# Altium schematic symbol library Cole_.SchLib: 330 symbols (part 6 of 10)
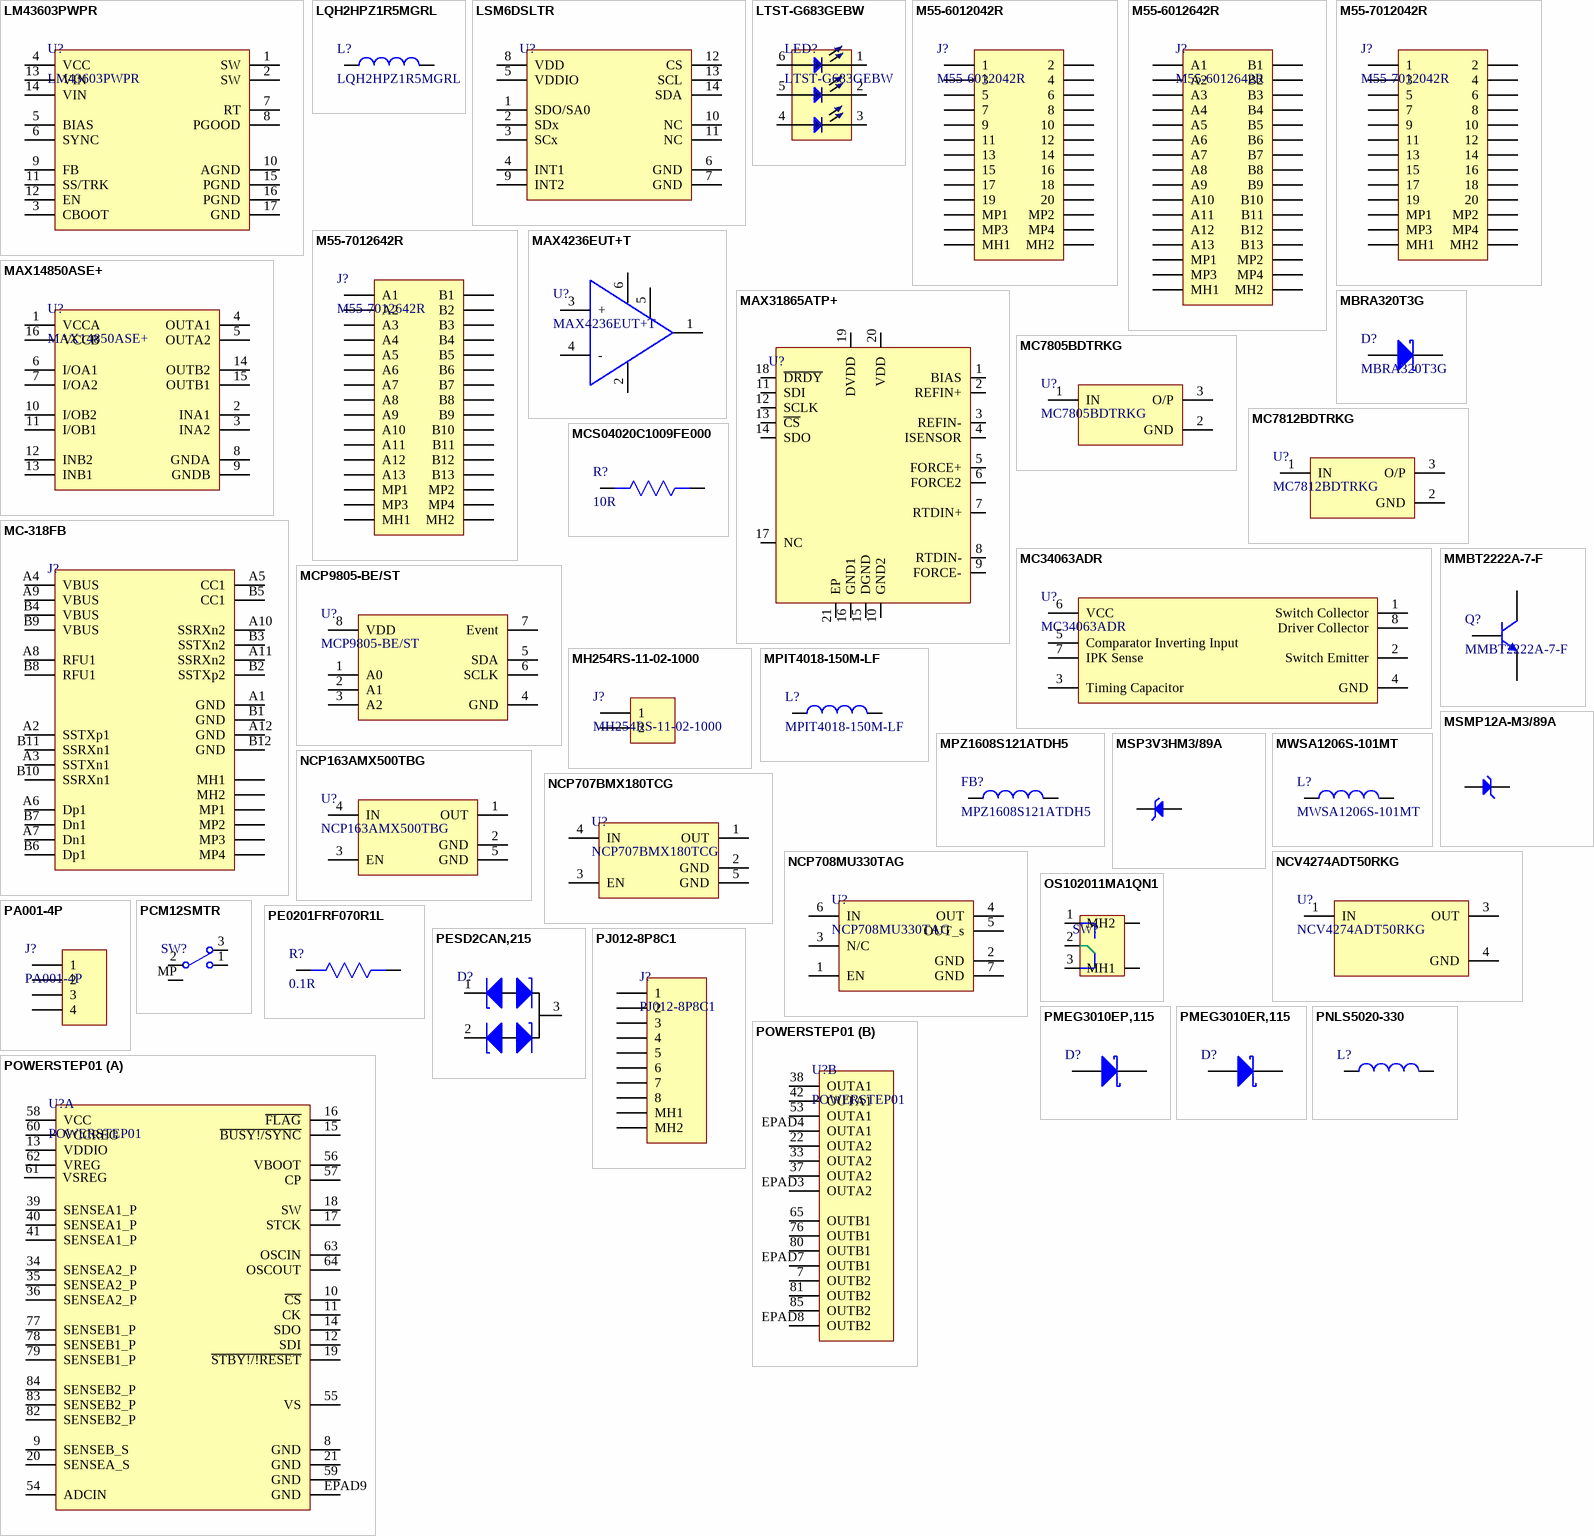
[diagram p13: symbols LM43603PWPR to POWERSTEP01]

## MC7812BDTRKG
designator U?
IC REG LINEAR 12V 1A DPAK; Manufacturer: ON Semiconductor; Max Input Voltage: 35V; Min Input Voltage: 19V; Number of Outputs: 1; Dropout Voltage: 2V; Polarity: Positive; Quiescent Current: 8mA; Accuracy: 4%; Power Supply Rejection Ratio (PSRR): 60dB; Output Type: Fixed; Supplier 1: Digi-Key; Manufacturer Part Number: MC7812BDTRKG; RoHS: Yes; Category: Voltage Regulators - Linear; Stock 1: 288; Pricing 1: 1=0.81000, 10=0.71600, 25=0.67280, 100=0.54900, 250=0.50992, 500=0.43396, 1000=0.35822 (USD); Mount: Surface Mount; Case/Package: DPAK; Number of Pins: 3; Contact Plating: Tin,Matte; Min Operating Temperature: -40°C; Max Operating Temperature: 125°C; Output Voltage: 12V; Output Current: 1A; Packaging: Tape and Reel; Package Quantity: 1; Max Output Current: 1A; Nominal Output Voltage: 12V; Number of Regulators: 1; Min Output Voltage: 12V; Output Voltage Accuracy: 4%; Radiation Hardening: No; REACH SVHC: No SVHC; Lead Free: Lead Free; Halogen Free: Halogen Free; RoHS Compliant: Yes; ComponentLink1URL: https://datasheet.ciiva.com/8073/87758-8073852.pdf?src-supplier=Element14; ComponentLink1Description: https://datasheet.ciiva.com/8073/87758-8073852.pdf?src-supplier=Element14; ComponentLink2URL: https://datasheet.ciiva.com/22629/1726421-22629432.pdf?src-supplier=Element14; ComponentLink2Description: https://datasheet.ciiva.com/22629/1726421-22629432.pdf?src-supplier=Element14; ComponentLink3URL: https://datasheet.ciiva.com/46381/1726421-46381894.pdf?src-supplier=Element14; ComponentLink3Description: https://datasheet.ciiva.com/46381/1726421-46381894.pdf?src-supplier=Element14; ComponentLink4URL: https://datasheet.ciiva.com/8230/mc7800-d-8230637.pdf?src-supplier=Avnet; ComponentLink4Description: https://datasheet.ciiva.com/8230/mc7800-d-8230637.pdf?src-supplier=Avnet; ComponentLink5URL: https://datasheet.ciiva.com/8234/mc7800-d-8234078.pdf?src-supplier=Avnet; ComponentLink5Description: https://datasheet.ciiva.com/8234/mc7800-d-8234078.pdf?src-supplier=Avnet; ComponentLink6URL: https://datasheet.ciiva.com/2042/mc7800-d-2042425.pdf?src-supplier=Digi-Key; ComponentLink6Description: https://datasheet.ciiva.com/2042/mc7800-d-2042425.pdf?src-supplier=Digi-Key; ComponentLink7URL: https://datasheet.ciiva.com/2042/mc7800-d-2042426.pdf?src-supplier=Digi-Key; ComponentLink7Description: https://datasheet.ciiva.com/2042/mc7800-d-2042426.pdf?src-supplier=Digi-Key; ComponentLink8URL: https://datasheet.ciiva.com/2042/mc7800-d-2042424.pdf?src-supplier=Digi-Key; ComponentLink8Description: https://datasheet.ciiva.com/2042/mc7800-d-2042424.pdf?src-supplier=Digi-Key; Supplier Part Number 1: MC7812BDTRKGOSCT-ND
footprint DPAK
pins: 1 IN, 2 GND, 3 O/P

## MC34063ADR
designator U?
1.5-A boost, buck, inverting switching regulator, operation from 0°C to 70°C 8-SOIC 0 to 70; Manufacturer: Texas Instruments; Output Voltage: 40V; Number of Outputs: 1; Output Current: 1.5A; Switching Frequency: 100kHz; Synchronous Rectifier: No; Output Type: Adjustable; Max Output Current: 750mA; Min Input Voltage: 3V; Min Output Voltage: 1.55V; Quiescent Current: 4mA; Topology: Flyback,SEPIC; Supplier 1: Digi-Key; Manufacturer Part Number: MC34063ADR; RoHS: Yes; Category: Power Supply Modules; Stock 1: 17204; Pricing 1: 1=0.78000, 10=0.68400, 25=0.64240, 100=0.52420, 250=0.48688, 500=0.41438, 1000=0.34206 (USD); Case/Package: D; Number of Pins: 8; Weight: 0.002561oz; Contact Plating: Gold; Min Operating Temperature: 0°C; Max Operating Temperature: 70°C; Packaging: Tape and Reel; Package Quantity: 1; Max Input Voltage: 40V; Max Output Voltage: 40V; Termination: SMD/SMT; Radiation Hardening: No; RoHS Compliant: Yes; Lead Free: Lead Free; REACH SVHC: No SVHC; ComponentLink1URL: https://datasheet.ciiva.com/7408/1862376-7408060.pdf?src-supplier=Newark; ComponentLink1Description: https://datasheet.ciiva.com/7408/1862376-7408060.pdf?src-supplier=Newark; ComponentLink2URL: https://datasheet.ciiva.com/2025/mc33063a-2025162.pdf?src-supplier=Digi-Key; ComponentLink2Description: https://datasheet.ciiva.com/2025/mc33063a-2025162.pdf?src-supplier=Digi-Key; ComponentLink3URL: https://datasheet.ciiva.com/2025/mc33063a-2025161.pdf?src-supplier=Digi-Key; ComponentLink3Description: https://datasheet.ciiva.com/2025/mc33063a-2025161.pdf?src-supplier=Digi-Key; ComponentLink4URL: https://datasheet.ciiva.com/2025/mc33063a-2025163.pdf?src-supplier=Digi-Key; ComponentLink4Description: https://datasheet.ciiva.com/2025/mc33063a-2025163.pdf?src-supplier=Digi-Key; Supplier Part Number 1: 296-17765-1-ND
footprint SOIC-8
pins: 1 Switch Collector, 2 Switch Emitter, 3 Timing Capacitor, 4 GND, 5 Comparator Inverting Input, 6 VCC, 7 IPK Sense, 8 Driver Collector

## MC-318FB
designator J?
USB 3.0 3A 1 Brick nogging 24 Female -35℃~+75℃ Type-C SMD USB Connectors ROHS; Manufacturer: SOFNG; Manufacturer Part Number: MC-318FB; ComponentLink1Description: LCSC; ComponentLink1URL: https://www.lcsc.com/product-detail/USB-Connectors_SOFNG-MC-318FB_C2977724.html; Footprint: Custom
footprint MC-318FB
pins: A1 GND, A2 SSTXp1, A3 SSTXn1, A4 VBUS, A5 CC1, A6 Dp1, A7 Dn1, A8 RFU1, A9 VBUS, A10 SSRXn2, A11 SSRXn2, A12 GND, B1 GND, B2 SSTXp2, B3 SSTXn2, B4 VBUS, B5 CC1, B6 Dp1, B7 Dn1, B8 RFU1, B9 VBUS, B10 SSRXn1, B11 SSRXn1, B12 GND, MH1, MH2, MP1, MP2, MP3, MP4

## MCP9805-BE/ST
designator U?
IC SENSOR THERMAL 3.0V 8TSSOP; Manufacturer: Microchip; Min Supply Voltage: 3V; Max Supply Voltage: 3.6V; Output Current: 1uA; Interface: I2C,SMBus,2-Wire,Serial; Resolution: 10b; Operating Supply Current: 200uA; Accuracy: 2%; Number of Bits: 10; Output Type: I2C,Digital; Sensor Type: Temperature; Sensing Method: Resistive; ComponentLink1URL: https://datasheet.ciiva.com/22737/1678782-22737270.pdf?src-supplier=Element14; ComponentLink1Description: https://datasheet.ciiva.com/22737/1678782-22737270.pdf?src-supplier=Element14; ComponentLink2URL: https://datasheet.ciiva.com/43467/1678782-43467032.pdf?src-supplier=Farnell; ComponentLink2Description: https://datasheet.ciiva.com/43467/1678782-43467032.pdf?src-supplier=Farnell; ComponentLink3URL: https://datasheet.ciiva.com/22673/1678782-22673662.pdf?src-supplier=Element14; ComponentLink3Description: https://datasheet.ciiva.com/22673/1678782-22673662.pdf?src-supplier=Element14; Supplier 1: Digi-Key; Manufacturer Part Number: MCP9805-BE/ST; RoHS: Yes; Category: Power Management ICs; Stock 1: 667; Pricing 1: 1=0.85000, 25=0.71000, 100=0.65000 (USD); Mount: Surface Mount; Case/Package: TSSOP; Number of Pins: 8; Min Operating Temperature: -40°C; Max Operating Temperature: 125°C; Package Quantity: 100; Packaging: Rail/Tube; Max Supply Voltage (DC): 3.6V; Min Supply Voltage (DC): 3V; Termination: SMD/SMT; Length: 3mm; Width: 4.4mm; Height: 1mm; Radiation Hardening: No; REACH SVHC: No SVHC; Lead Free: Lead Free; RoHS Compliant: Yes; ComponentLink4URL: https://datasheet.ciiva.com/1514/1791047-1514016.pdf?src-supplier=Element14; ComponentLink4Description: https://datasheet.ciiva.com/1514/1791047-1514016.pdf?src-supplier=Element14; ComponentLink5URL: https://datasheet.ciiva.com/2003/21977b-2003478.pdf?src-supplier=Digi-Key; ComponentLink5Description: https://datasheet.ciiva.com/2003/21977b-2003478.pdf?src-supplier=Digi-Key; ComponentLink6URL: https://datasheet.ciiva.com/5299/21977b-77986-5299688.pdf?src-supplier=Mouser; ComponentLink6Description: https://datasheet.ciiva.com/5299/21977b-77986-5299688.pdf?src-supplier=Mouser; ComponentLink7URL: https://datasheet.ciiva.com/3279/21977b-3279902.pdf?src-supplier=Avnet; ComponentLink7Description: https://datasheet.ciiva.com/3279/21977b-3279902.pdf?src-supplier=Avnet; Supplier Part Number 1: MCP9805-BE/ST-ND
footprint 8-TSSOP (IC SENSOR THERMAL 3.0V 8TSSOP)
pins: 1 A0, 2 A1, 3 A2, 4 GND, 5 SDA, 6 SCLK, 7 Event, 8 VDD

## MCS04020C1009FE000
designator R?, comment 10R
RES SMD 10 OHM 1% 1/10W 0402; Manufacturer: Vishay BCcomponents; Manufacturer Part Number: MCS04020C1009FE000; Temperature Coefficient: 50ppm/°C; Power Rating: 63mW; Voltage Rating: 50V; Max Power Dissipation: 100mW; Supplier 1: Digi-Key; RoHS: Yes; Category: Chip SMD Resistors; Stock 1: 2216; Pricing 1: 1=0.26000, 10=0.22000, 100=0.08600, 1000=0.03600, 2500=0.03300, 5000=0.03000 (USD); Case/Package: 0402; Contact Plating: Tin; Weight: 2.1E-05oz; Case Code (Imperial): 0402; Case Code (Metric): 1005; Min Operating Temperature: -55°C; Max Operating Temperature: 125°C; Resistance: 10R; Tolerance: 1%; Resistor Type: Thin Film; Packaging: Tape and Reel; Package Quantity: 10000; Number of Terminations: 2; Voltage Rating (DC): 50V; Series: MCS 0402 - Professional; Construction: Rectangular; Resistance Tolerance: 1%; Length: 1mm; Width: 0.5mm; Height: 0.015inch; Depth: 0.5mm; Radiation Hardening: No; Military Standard: Not; REACH SVHC: No SVHC; Lead Free: Lead Free; RoHS Compliant: Yes; ComponentLink1URL: https://datasheet.ciiva.com/2575/mc-pro-2575438.pdf?src-supplier=Digi-Key; ComponentLink1Description: https://datasheet.ciiva.com/2575/mc-pro-2575438.pdf?src-supplier=Digi-Key; ComponentLink2URL: https://datasheet.ciiva.com/16894/mc-pro-16894303.pdf?src-supplier=Avnet+Europe; ComponentLink2Description: https://datasheet.ciiva.com/16894/mc-pro-16894303.pdf?src-supplier=Avnet+Europe; Supplier Part Number 1: 749-1551-1-ND
footprint Res0402
pins: 1, 2

## MH254RS-11-02-1000
designator J?
3A Surface Mount Header 1x2 SMD,P=2.54mm Pin Headers ROHS; Manufacturer: XFCN; Packagw: Custom; Manufacturer Part No:: MH254RS-11-02-1000
footprint MH254RS-11-02-1000
pins: 1, 2

## MMBT2222A-7-F
designator Q?
TRANS NPN 40V 0.6A SMD SOT23-3; Manufacturer: Diodes; Max Power Dissipation: 300mW; Collector Base Voltage (VCBO): 75V; Max Collector Current: 600mA; hFE Min: 100; Frequency: 300MHz; Number of Elements: 1; Emitter Base Voltage (VEBO): 6V; Collector Emitter Saturation Voltage: 1V; Power Dissipation: 350mW; Element Configuration: Single; Current: 1A; Supplier 1: Digi-Key; Manufacturer Part Number: MMBT2222A-7-F; Stock 1: 2471182; Pricing 1: 1=0.15, 10=0.134, 100=0.0729, 500=0.04486, 1000=0.03059 (USD); Mount: Surface Mount; Case/Package: SOT-23; Number of Pins: 3; Weight: 0.000282oz; Contact Plating: Matte,Tin; Min Operating Temperature: -55°C; Max Operating Temperature: 150°C; Packaging: Tape and Reel; Collector Emitter Voltage (VCEO): 40V; Polarity: NPN; Voltage Rating (DC): 40V; Package Quantity: 3000; Continuous Collector Current: 600mA; Collector Emitter Breakdown Voltage: 40V; Transition Frequency: 300MHz; Max Breakdown Voltage: 40V; Max Frequency: 300MHz; Termination: SMD/SMT; Gain Bandwidth Product: 300MHz; Current Rating: 600mA; Voltage: 40V; Length: 3.05mm; Height: 1mm; Width: 1.4mm; Radiation Hardening: No; Lead Free: Lead Free; REACH SVHC: No SVHC; ComponentLink1URL: http://www.diodes.com/datasheets/ds30041.pdf?src-supplier=Future+Electronics; ComponentLink1Description: http://www.diodes.com/datasheets/ds30041.pdf?src-supplier=Future+Electronics; ComponentLink2URL: http://www.diodes.com/datasheets/ds30041.pdf?src-supplier=Avnet; ComponentLink2Description: http://www.diodes.com/datasheets/ds30041.pdf?src-supplier=Avnet; ComponentLink3URL: https://www.verical.com/server-webapp/html/getDatasheet?partID=82692&src-supplier=Verical; ComponentLink3Description: https://www.verical.com/server-webapp/html/getDatasheet?partID=82692&src-supplier=Verical; ComponentLink4URL: https://www.diodes.com/assets/Datasheets/ds30041.pdf?src-supplier=Digi-Key; ComponentLink4Description: https://www.diodes.com/assets/Datasheets/ds30041.pdf?src-supplier=Digi-Key; ComponentLink5URL: http://www.diodes.com/datasheets/ds30041.pdf?src-supplier=Avnet+Europe; ComponentLink5Description: http://www.diodes.com/datasheets/ds30041.pdf?src-supplier=Avnet+Europe; ComponentLink6URL: http://www.diodes.com/datasheets/ds30041.pdf?src-supplier=Element14; ComponentLink6Description: http://www.diodes.com/datasheets/ds30041.pdf?src-supplier=Element14; Supplier Part Number 1: MMBT2222A-FDIDKR-ND
footprint SOT-23
pins: 1 B, 2 E, 3 C

## MPIT4018-150M-LF
designator L?
1A 15uH ±20% 190mΩ SMD Power Inductors ROHS; Manufacturer: microgate; Manufacturer Part No: MPIT4018-150M-LF; Value: 15uH; ComponentLink1Description: LCSC; ComponentLink1URL: https://lcsc.com/product-detail/Power-Inductors_microgate-MPIT4018-150M-LF_C281265.html
footprint MPIT4018-150M-LF
pins: 1, 2

## MPZ1608S121ATDH5
designator FB?
FERRITE BEAD 120 OHM 0603 1LN; Manufacturer: TDK; Number of Lines: 1; Max Current Rating: 2A; DC Resistance (DCR): 45mR; Impedance: 120R; Tolerance: 25%; Test Frequency: 100MHz; Supplier 1: Digi-Key; Manufacturer Part Number: MPZ1608S121ATDH5; RoHS: Yes; Category: Ferrite Beads and Chips; Pricing 1: 1=0.11000, 10=0.08600, 25=0.07720, 50=0.05660, 100=0.04890, 250=0.03860, 500=0.03260, 1000=0.02746 (USD); Mount: Surface Mount; Case/Package: 0603; Case Code (Metric): 1608; Case Code (Imperial): 0603; Weight: 7.1E-05oz; Min Operating Temperature: -55°C; Max Operating Temperature: 125°C; Package Quantity: 4000; Packaging: Tape and Reel; Termination: SMD/SMT; Max DC Current: 2A; Length: 0.063inch; Width: 0.031inch; Height: 0.03inch; Ratings: AEC-Q200; RoHS Compliant: Yes; ComponentLink1URL: https://media.digikey.com/pdf/Data%20Sheets/TDK%20PDFs/MPZ_Series_Br.pdf?src-supplier=Digi-Key; ComponentLink1Description: https://media.digikey.com/pdf/Data%20Sheets/TDK%20PDFs/MPZ_Series_Br.pdf?src-supplier=Digi-Key; ComponentLink2URL: http://www.mouser.com/ds/2/400/eads_commercial_power_mpz1608_en-923650.pdf?src-supplier=Mouser; ComponentLink2Description: http://www.mouser.com/ds/2/400/eads_commercial_power_mpz1608_en-923650.pdf?src-supplier=Mouser; ComponentLink3URL: https://product.tdk.com/info/en/catalog/datasheets/beads_automotive_power_mpz1608_en.pdf?src-supplier=Digi-Key; ComponentLink3Description: https://product.tdk.com/info/en/catalog/datasheets/beads_automotive_power_mpz1608_en.pdf?src-supplier=Digi-Key; Supplier Part Number 1: 445-172891-6-ND
footprint MPZ1608S121ATDH5 (FERRITE BEAD 120 OHM 0603 1LN)
pins: 1, 2

## MSMP12A-M3/89A
designator D?
TVS DIODE 12VWM 19.9VC MICROSMP; Number of Unidirectional Channels: 1; Reverse Standoff Voltage: 12V; Min Breakdown Voltage: 13.3V; Peak Pulse Power: 150W; Power Line Protection: No; Peak Pulse Current: 7.5A; Diode Type: ZENER; LCSC Part Number: C1973858; Item Type: TVS Diode; ComponentLink1Description: LCSC; Supplier: Mouser; Supplier Part Number: 78-MSMP12A-M389A; RoHS: Yes; Category: TVS Diodes; Stock: 17037; Pricing: 1=0.36, 10=0.294, 50=0.294, 100=0.118, 1000=0.069, 10000=0.048 (USD); Mounting Technology: Surface Mount; Min Operating Temperature: -55°C; Max Operating Temperature: 150°C; Packaging: Tape and Reel; Series: TransZorb®; RoHS Compliant: Yes; ComponentLink2URL: http://www.vishay.com/docs/89457/mspm6a.pdf?src-supplier=Digi-Key; ComponentLink2Description: http://www.vishay.com/docs/89457/mspm6a.pdf?src-supplier=Digi-Key; ComponentLink3URL: http://www.vishay.com/docs/89457/msmp6athrumsmp20a.pdf?src-supplier=Digi-Key; ComponentLink3Description: http://www.vishay.com/docs/89457/msmp6athrumsmp20a.pdf?src-supplier=Digi-Key
footprint MicroSMP
pins: 1 A, 2 K

## MSP3V3HM3/89A
designator D?
TVS DIODE 3.3VWM 11.5VC MICROSMP; Direction: Unidirectional; Operating Supply Voltage: 3.3V; Max Surge Current: 75A; Breakdown Voltage: 4.1V; Clamping Voltage: 11V; Peak Pulse Power: 150W; Number of Unidirectional Channels: 1; Power Line Protection: No; Peak Pulse Current: 87A; Test Current: 1mA; Max Reverse Leakage Current: 200uA; Diode Type: ZENER; LCSC Part Number: C241899; Item Type: TVS Diode; ComponentLink1Description: LCSC; Supplier: Mouser; Supplier Part Number: 625-MSP3V3HM3; RoHS: Yes; Category: TVS Diodes; Stock: 15021; Pricing: 1=0.39, 10=0.313, 50=0.313, 100=0.165, 1000=0.068, 10000=0.05 (USD); Mounting Technology: Surface Mount; Min Operating Temperature: -55°C; Max Operating Temperature: 150°C; Packaging: Tape and Reel; Package Quantity: 4500; Polarity: Unidirectional; Reverse Standoff Voltage: 3.3V; Min Breakdown Voltage: 4.1V; Series: Automotive, AEC-Q101, TransZorb®, eSMP™; RoHS Compliant: Yes; ComponentLink2URL: https://datasheet.ciiva.com/14080/msp3v3-14080471.pdf?src-supplier=Digi-Key; ComponentLink2Description: https://datasheet.ciiva.com/14080/msp3v3-14080471.pdf?src-supplier=Digi-Key
footprint MicroSMP
pins: 1 A, 2 K

## MWSA1206S-101MT
designator L?
3A 100uH ±20% 200mΩ SMD Power Inductors ROHS; Manufacturer: Sunlord; Manufacturer Part No: MWSA1206S-101MT; Value: 100uH
footprint MWSA1206S-101MT
pins: 1, 2

## NCP163AMX500TBG
designator U?
IC REG LINEAR 5V 250MA 4XDFN; Manufacturer: ON Semiconductor; Output Type: Fixed; Output Configuration: Positive; Number of Regulators: 1; Max Input Voltage: 5.5V; Dropout Voltage: 105mV; Quiescent Current: 20uA; Power Supply Rejection Ratio (PSRR): 60dB; Supplier 1: Digi-Key; Manufacturer Part Number: NCP163AMX500TBG; RoHS: Yes; Category: Voltage Regulators - Linear; Stock 1: 1388; Pricing 1: 1=0.46000, 10=0.37200, 25=0.34000, 100=0.25300, 250=0.22932, 500=0.18978, 1000=0.14234 (USD); Mount: Surface Mount; Min Operating Temperature: -40°C; Max Operating Temperature: 125°C; Packaging: Cut Tape; Min Output Voltage: 5V; Output Current: 250mA; RoHS Compliant: Yes; ComponentLink1URL: https://www.onsemi.com/pub/Collateral/NCP163-D.PDF?src-supplier=Digi-Key; ComponentLink1Description: https://www.onsemi.com/pub/Collateral/NCP163-D.PDF?src-supplier=Digi-Key; ComponentLink2URL: http://www.onsemi.com/pub/Collateral/NCP163-D.PDF?src-supplier=Digi-Key; ComponentLink2Description: http://www.onsemi.com/pub/Collateral/NCP163-D.PDF?src-supplier=Digi-Key; Supplier Part Number 1: NCP163AMX500TBGOSCT-ND
footprint 4-XDFN (1x1)
pins: 1 OUT, 2 GND, 3 EN, 4 IN, 5 GND

## NCP707BMX180TCG
designator U?
IC REG LINEAR 1.8V 200MA 4XDFN; Manufacturer: ON Semiconductor; Number of Outputs: 1; Max Input Voltage: 5.5V; Dropout Voltage: 221mV; Min Current Limit: 250mA; Polarity: Positive; Quiescent Current: 35uA; Accuracy: 1.2%; Output Type: Fixed; Supplier 1: Avnet; Manufacturer Part Number: NCP707BMX180TCG; RoHS: Yes; Category: Voltage Regulators - Linear; Stock 1: 240000; Pricing 1: 3268=0.10000, 3300=0.09792, 6600=0.09639, 17000=0.09486, 33000=0.09333, 170000=0.09180, 330000=0.09027 (USD); Mount: Surface Mount; Number of Pins: 4; Min Operating Temperature: -40°C; Max Operating Temperature: 125°C; Packaging: Tape and Reel; Max Output Current: 200mA; Output Voltage: 1.8V; Output Current: 200mA; Number of Regulators: 1; Package Quantity: 3000; Lead Free: Lead Free; Halogen Free: Halogen Free; RoHS Compliant: Yes; ComponentLink1URL: http://www.mouser.com/ds/2/308/NCP707-D-334816.pdf?src-supplier=Mouser; ComponentLink1Description: http://www.mouser.com/ds/2/308/NCP707-D-334816.pdf?src-supplier=Mouser; ComponentLink2URL: http://www.onsemi.com/pub/Collateral/NCP707-D.PDF?src-supplier=Digi-Key; ComponentLink2Description: http://www.onsemi.com/pub/Collateral/NCP707-D.PDF?src-supplier=Digi-Key; ComponentLink3URL: http://www.onsemi.com/pub/Collateral/NCP707-D.PDF?src-supplier=Avnet; ComponentLink3Description: http://www.onsemi.com/pub/Collateral/NCP707-D.PDF?src-supplier=Avnet; Supplier Part Number 1: NCP707BMX180TCG
footprint 4-XDFN (1x1)
pins: 1 OUT, 2 GND, 3 EN, 4 IN, 5 GND

## NCP708MU330TAG
designator U?
IC REG LINEAR 3.3V 1A 6UDFN; Manufacturer: ON Semiconductor; Dropout Voltage: 220mV; Number of Regulators: 1; Min Current Limit: 1.1A; Supplier 1: Digi-Key; Manufacturer Part Number: NCP708MU330TAG; RoHS: Yes; Category: Voltage Regulators - Linear; Stock 1: 3000; Pricing 1: 1=0.51000, 10=0.43500, 25=0.40600, 100=0.32470, 250=0.30152, 500=0.25512, 1000=0.19714 (USD); Mount: Surface Mount; Min Operating Temperature: -40°C; Max Operating Temperature: 125°C; Packaging: Tape and Reel; Output Voltage: 3.3V; Output Current: 1A; Lead Free: Lead Free; RoHS Compliant: Yes; ComponentLink1URL: http://www.mouser.com/ds/2/308/NCP708-D-1082570.pdf?src-supplier=Mouser; ComponentLink1Description: http://www.mouser.com/ds/2/308/NCP708-D-1082570.pdf?src-supplier=Mouser; ComponentLink2URL: http://www.onsemi.com/pub/Collateral/NCP708-D.PDF?src-supplier=Digi-Key; ComponentLink2Description: http://www.onsemi.com/pub/Collateral/NCP708-D.PDF?src-supplier=Digi-Key; Supplier Part Number 1: NCP708MU330TAGOSCT-ND
footprint 6-UDFN (3x3)
pins: 1 EN, 2 GND, 3 N/C, 4 OUT, 5 OUT_s, 6 IN, 7 GND

## NCV4274ADT50RKG
designator U?
IC REG LINEAR 5V 400MA DPAK; Manufacturer: ON Semiconductor; Dropout Voltage: 250mV; Number of Outputs: 1; Min Input Voltage: 5.5V; Max Input Voltage: 40V; Input Bias Current: 190uA; Polarity: Positive; Quiescent Current: 250uA; Accuracy: 2%; Output Type: Fixed; Supplier 1: Digi-Key; Manufacturer Part Number: NCV4274ADT50RKG; RoHS: Yes; Category: Voltage Regulators - Linear; Stock 1: 13; Pricing 1: 1=1.01000, 10=0.89900, 25=0.85320, 100=0.70090, 250=0.65520, 500=0.57902, 1000=0.50312 (USD); Mount: Surface Mount; Case/Package: DPAK; Number of Pins: 3; Min Operating Temperature: -40°C; Max Operating Temperature: 150°C; Output Current: 400mA; Packaging: Tape and Reel; Max Output Current: 400mA; Output Voltage: 5V; Package Quantity: 1; Nominal Output Voltage: 5V; Number of Regulators: 1; Min Current Limit: 400mA; Min Output Voltage: 5V; Termination: SMD/SMT; Output Voltage Accuracy: 2%; Series: Automotive, AEC-Q100; Length: 6.73mm; Width: 6.22mm; Height: 2.19mm; Radiation Hardening: No; REACH SVHC: No SVHC; Lead Free: Lead Free; RoHS Compliant: Yes; ComponentLink1URL: https://datasheet.ciiva.com/8232/ncv4274-d-8232210.pdf?src-supplier=Avnet; ComponentLink1Description: https://datasheet.ciiva.com/8232/ncv4274-d-8232210.pdf?src-supplier=Avnet; ComponentLink2URL: https://datasheet.ciiva.com/25627/0900766b810de37d-25627053.pdf?src-supplier=RSComponents; ComponentLink2Description: https://datasheet.ciiva.com/25627/0900766b810de37d-25627053.pdf?src-supplier=RSComponents; ComponentLink3URL: https://datasheet.ciiva.com/2044/ncv4274-d-2044518.pdf?src-supplier=Digi-Key; ComponentLink3Description: https://datasheet.ciiva.com/2044/ncv4274-d-2044518.pdf?src-supplier=Digi-Key; ComponentLink4URL: https://datasheet.ciiva.com/2044/ncv4274-d-2044519.pdf?src-supplier=Digi-Key; ComponentLink4Description: https://datasheet.ciiva.com/2044/ncv4274-d-2044519.pdf?src-supplier=Digi-Key; ComponentLink5URL: https://datasheet.ciiva.com/2044/ncv4274-d-2044520.pdf?src-supplier=Digi-Key; ComponentLink5Description: https://datasheet.ciiva.com/2044/ncv4274-d-2044520.pdf?src-supplier=Digi-Key; ComponentLink6URL: https://datasheet.ciiva.com/5697/ncv4274-d-5697583.pdf?src-supplier=Farnell; ComponentLink6Description: https://datasheet.ciiva.com/5697/ncv4274-d-5697583.pdf?src-supplier=Farnell; ComponentLink7URL: https://datasheet.ciiva.com/8233/ncv4274-d-8233511.pdf?src-supplier=Avnet; ComponentLink7Description: https://datasheet.ciiva.com/8233/ncv4274-d-8233511.pdf?src-supplier=Avnet; ComponentLink8URL: https://datasheet.ciiva.com/16220/ncv4274-d-16220101.pdf?src-supplier=Future+Electronics; ComponentLink8Description: https://datasheet.ciiva.com/16220/ncv4274-d-16220101.pdf?src-supplier=Future+Electronics; ComponentLink9URL: https://datasheet.ciiva.com/8073/ncv4274-d-8073931.pdf?src-supplier=Element14; ComponentLink9Description: https://datasheet.ciiva.com/8073/ncv4274-d-8073931.pdf?src-supplier=Element14; ComponentLink10URL: https://datasheet.ciiva.com/26178/ncv4274-d-26178828.pdf?src-supplier=Avnet+Europe; ComponentLink10Description: https://datasheet.ciiva.com/26178/ncv4274-d-26178828.pdf?src-supplier=Avnet+Europe; Supplier Part Number 1: NCV4274ADT50RKGOSCT-ND
footprint TO-252-2(DPAK) (Fixed 40V 5V 500mV @ 250mA TO-252-2(DPAK) Dropout Regulators(LDO) RoHS)
pins: 1 IN, 3 OUT, 4 GND

## OS102011MA1QN1
designator SW?  (value not drawn)
SWITCH SLIDE SPDT 100MA 12V; Manufacturer: ITT C&K; Mechanical Life: 10000Cycles; Body Material: Tin; Actuator Material: Polyoxymethylene,Acetal,Polyacetal; Contact Resistance: 20mR; Contact Style: Non-Shorting; Insulation Resistance: 100MR; Switch Travel: 2mm; Switch Function: On-On; Actuator Type: Standard; Actuator Length: 4mm; Supplier 1: Digi-Key; Manufacturer Part Number: OS102011MA1QN1; Stock 1: 24069; Pricing 1: 1=0.38, 10=0.363, 25=0.3552, 50=0.3176, 100=0.3024, 250=0.2948, 500=0.2495, 1000=0.2419, 5000=0.2117 (USD); Mount: Through Hole,Brackets,PCB; Contact Material: Copper Alloy,Brass,Silver; Contact Plating: Silver,Gold; Housing Material: Resin; Min Operating Temperature: -10°C; Max Operating Temperature: 70°C; Packaging: Bulk; Throw Configuration: SPDT; Voltage Rating (DC): 12V; Max Current Rating: 100mA; Contact Current Rating: 100mA; Max Voltage Rating (DC): 12V; Package Quantity: 300; Current Rating: 100mA; Termination: PC Pins; Electrical Life: 10000Cycles; Orientation: Right Angle; Length: 8.6mm; Width: 4.4mm; Depth: 8.4mm; Radiation Hardening: No; REACH SVHC: No SVHC; Lead Free: Lead Free; ComponentLink1URL: http://www.jameco.com/Jameco/Products/ProdDS/588220.pdf?src-supplier=Jameco; ComponentLink1Description: http://www.jameco.com/Jameco/Products/ProdDS/588220.pdf?src-supplier=Jameco; ComponentLink2URL: http://uk.rs-online.com/webdocs/1263/0900766b81263f61.pdf?src-supplier=RSComponents; ComponentLink2Description: http://uk.rs-online.com/webdocs/1263/0900766b81263f61.pdf?src-supplier=RSComponents; ComponentLink3URL: http://www.farnell.com/datasheets/1683358.pdf?src-supplier=Element14; ComponentLink3Description: http://www.farnell.com/datasheets/1683358.pdf?src-supplier=Element14; ComponentLink4URL: http://www1.futureelectronics.com/doc/C%20-%20K%20COMPONENTS/OS102011MA1QN1.pdf?src-supplier=Future+Electronics; ComponentLink4Description: http://www1.futureelectronics.com/doc/C%20-%20K%20COMPONENTS/OS102011MA1QN1.pdf?src-supplier=Future+Electronics; ComponentLink5URL: https://www.ckswitches.com/media/1428/os.pdf?src-supplier=Digi-Key; ComponentLink5Description: https://www.ckswitches.com/media/1428/os.pdf?src-supplier=Digi-Key; ComponentLink6URL: https://www.alliedelec.com/m/d/08271ccc8b1809c6b911a7d3c93f3e8a.pdf?src-supplier=Allied+Electronics; ComponentLink6Description: https://www.alliedelec.com/m/d/08271ccc8b1809c6b911a7d3c93f3e8a.pdf?src-supplier=Allied+Electronics; ComponentLink7URL: http://www.farnell.com/datasheets/2674787.pdf?src-supplier=Newark; ComponentLink7Description: http://www.farnell.com/datasheets/2674787.pdf?src-supplier=Newark; Supplier Part Number 1: CKN9559-ND
footprint OS102011MA1QN1- (2 Position SPDT Miniature Slide Switch 100MA 12V Through Hole, Right Angle)
pins: 1 +, 2 +, 3 +, MH1, MH2

## PA001-4P
designator J?
P=5mm Screw terminal RoHS; Manufacturer: HIWA; Number of Positions: 4; Number of Levels: 1; Pitch: 0.197"(5.00mm); Package: P=5mm; Type: Wiring Board - Line to Board; Positions Per Level: 4; Mounting Type: Through Hole
footprint PA001-4P (P=5mm Screw terminal RoHS)
pins: 1, 2, 3, 4

## PCM12SMTR
designator SW?
SWITCH SLIDE SPDT 300MA 6V; Manufacturer: ITT C&K; Manufacturer Part Number: PCM12SMTR; Mechanical Life: 10000Cycles; Actuator Material: Nylon,Polyamide; Contact Resistance: 70mR; Insulation Resistance: 100mR; Switch Travel: 1.5mm; Switch Function: On-On; Actuator Type: Standard; Item Type: Slide Switch; Supplier 1: Digi-Key; Stock 1: 33578; Pricing 1: 1=0.91, 10=0.87, 25=0.8524, 50=0.7616, 100=0.7253, 250=0.7072, 500=0.5984, 1000=0.58027 (USD); Mount: Surface Mount; Contact Material: Copper Alloy,Copper,Silver; Contact Plating: Silver; Min Operating Temperature: -20°C; Max Operating Temperature: 85°C; Throw Configuration: SPDT; Max Voltage Rating (DC): 6V; Termination: Gull Wing; Voltage Rating (AC): 6V; Package Quantity: 1; Packaging: Tape and Reel; Voltage Rating (DC): 6V; Max Current Rating: 300mA; Contact Current Rating: 300mA; Current Rating: 300mA; Orientation: Right Angle; Length: 7.7mm; Width: 6.7mm; Depth: 5mm; Actuator Length: 1.5mm; REACH SVHC: No SVHC; Lead Free: Lead Free; ComponentLink1URL: https://www.ckswitches.com/media/1424/pcm.pdf?src-supplier=Digi-Key; ComponentLink1Description: https://www.ckswitches.com/media/1424/pcm.pdf?src-supplier=Digi-Key; ComponentLink2URL: https://products.avnet.com/shop/en/asia/switches-and-relays/switches/slide-switch/www.ckswitches.com/media/1424/pcm.pdf?src-supplier=Avnet+Asia; ComponentLink2Description: https://products.avnet.com/shop/en/asia/switches-and-relays/switches/slide-switch/www.ckswitches.com/media/1424/pcm.pdf?src-supplier=Avnet+Asia; ComponentLink3URL: http://www1.futureelectronics.com/doc/C%20&%20K%20COMPONENTS/PCM12SMTR.pdf?src-supplier=Future+Electronics; ComponentLink3Description: http://www1.futureelectronics.com/doc/C%20&%20K%20COMPONENTS/PCM12SMTR.pdf?src-supplier=Future+Electronics; ComponentLink4URL: http://www.farnell.com/datasheets/1789487.pdf?src-supplier=Onlinecomponents.com; ComponentLink4Description: http://www.farnell.com/datasheets/1789487.pdf?src-supplier=Onlinecomponents.com; ComponentLink5URL: http://www.farnell.com/datasheets/1789487.pdf?src-supplier=Element14; ComponentLink5Description: http://www.farnell.com/datasheets/1789487.pdf?src-supplier=Element14; ComponentLink6URL: http://www.farnell.com/datasheets/1789487.pdf?src-supplier=Mouser; ComponentLink6Description: http://www.farnell.com/datasheets/1789487.pdf?src-supplier=Mouser; Supplier Part Number 1: 401-2016-1-ND
footprint PCM12SMTR_ (SWITCH SLIDE SPDT 300MA 6V)
pins: 1, 2, 3, MP

## PE0201FRF070R1L
designator R?, comment 0.1R
RES 0.1 OHM 1% 1/20W 0201; Manufacturer: Yageo; Manufacturer Part Number: PE0201FRF070R1L; Resistance: 100mR; Max Power Dissipation: 50mW; Temperature Coefficient: 100ppm/°C; Supplier 1: Digi-Key; RoHS: Yes; Category: Chip SMD Resistors; Stock 1: 7158; Pricing 1: 1=0.63000, 10=0.46300, 25=0.37600, 50=0.32680, 100=0.26960, 250=0.23424, 500=0.19064, 1000=0.15121, 5000=0.14489 (USD); Case/Package: 0201; Min Operating Temperature: -55°C; Max Operating Temperature: 125°C; Resistor Type: Metal Film; Number of Terminations: 2; Features: Moisture Resistant,Automotive AEC-Q200; Tolerance: 1%; Packaging: Tape and Reel; Length: 0.024inch; Width: 0.012inch; Height: 0.012inch; ComponentLink1URL: http://www.mouser.com/ds/2/447/PYu-PE_521_RoHS_L_5-1077989.pdf?src-supplier=Mouser; ComponentLink1Description: http://www.mouser.com/ds/2/447/PYu-PE_521_RoHS_L_5-1077989.pdf?src-supplier=Mouser; ComponentLink2URL: http://www.yageo.com/NewPortal/yageodocoutput?fileName=/pdf/R-Chip/PYu-PE_521_RoHS_L_5.pdf&src-supplier=Digi-Key; ComponentLink2Description: http://www.yageo.com/NewPortal/yageodocoutput?fileName=/pdf/R-Chip/PYu-PE_521_RoHS_L_5.pdf&src-supplier=Digi-Key; ComponentLink3URL: http://www.yageo.com/documents/recent/PYu-PE_521_RoHS_L_5.pdf?src-supplier=Digi-Key; ComponentLink3Description: http://www.yageo.com/documents/recent/PYu-PE_521_RoHS_L_5.pdf?src-supplier=Digi-Key; Supplier Part Number 1: YAG6000CT-ND
footprint Res-0201
pins: 1, 2

## PESD2CAN,215
designator D?
TVS DIODE 24VWM 41VC TO236AB; Manufacturer: Nexperia; Manufacturer Part Number: PESD2CAN,215; Supplier 1: Arrow Electronics; RoHS: No; Category: ESD and Circuit Protection ICs; Stock 1: 775; Pricing 1: 1=0.48690, 10=0.40120, 25=0.38650, 50=0.33780, 100=0.25440, 250=0.25380, 500=0.25120 (USD); ComponentLink1URL: http://www.farnell.com/datasheets/1750978.pdf?src-supplier=Farnell; ComponentLink1Description: http://www.farnell.com/datasheets/1750978.pdf?src-supplier=Farnell; ComponentLink2URL: https://assets.nexperia.com/documents/data-sheet/PESD2CAN.pdf?src-supplier=Digi-Key; ComponentLink2Description: https://assets.nexperia.com/documents/data-sheet/PESD2CAN.pdf?src-supplier=Digi-Key; ComponentLink3URL: http://www.farnell.com/datasheets/1750978.pdf?src-supplier=Newark; ComponentLink3Description: http://www.farnell.com/datasheets/1750978.pdf?src-supplier=Newark; Supplier Part Number 1: PESD2CAN,215
footprint SOT-23 (TRANS NPN 40V 0.6A SOT23)
pins: 1 K1, 2 K2, 3 C_K

## PJ012-8P8C1
designator J?
8 POS. 8 CONTACT TOP ENTRY THRU; Manufacturer: On-Shore Technology; Connector Type: Jack; Direction: User Selectable; Number of Ports: 1; Shielding: Unshielded; Supplier 1: Digi-Key; Manufacturer Part Number: PJ012-8P8C1; RoHS: Yes; Stock 1: 13166; Pricing 1: 1=0.73000, 10=0.64400, 25=0.60600, 40=0.58075, 100=0.55550, 300=0.50500, 500=0.45450, 1000=0.40400, 2400=0.36613 (USD); Mount: Through Hole; Contact Plating: Gold; Housing Material: PBT; Min Operating Temperature: -25°C; Max Operating Temperature: 90°C; Packaging: Tray; Number of Rows: 1; Orientation: Vertical; Termination: Solder; ComponentLink1URL: http://www.on-shore.com/wp-content/uploads/2015/09/PJ012-8P8CX.pdf?src-supplier=Digi-Key; ComponentLink1Description: http://www.on-shore.com/wp-content/uploads/2015/09/PJ012-8P8CX.pdf?src-supplier=Digi-Key; Supplier Part Number 1: ED3073-ND
footprint PJ012-8P8C1
pins: 1, 2, 3, 4, 5, 6, 7, 8, MH1, MH2

## PMEG3010EP,115
designator D?
DIODE SCHOTTKY 30V 1A SOD128; Manufacturer: Nexperia; Manufacturer Part Number: PMEG3010EP,115; Supplier 1: Arrow Electronics; RoHS: Yes; Category: Rectifier Diodes; Stock 1: 3000; Pricing 1: 3000=0.09110, 6000=0.08480, 9000=0.07960, 15000=0.07880, 24000=0.07240, 30000=0.07170, 45000=0.07030 (USD); RoHS Compliant: Yes; Supplier Part Number 1: PMEG3010EP,115
footprint SOD-128
pins: 1 A, 2 K

## PMEG3010ER,115
designator D?
DIODE SCHOTTKY 30V 1A SOD123W; Manufacturer: Nexperia; Manufacturer Part Number: PMEG3010ER,115; Supplier 1: Digi-Key; Stock 1: 72983; Pricing 1: 1=0.35, 10=0.282, 25=0.258, 100=0.162, 250=0.1602, 500=0.15, 1000=0.102 (USD); Supplier Part Number 1: 1727-5201-1-ND
footprint SOD-123W (DIODE SCHOTTKY 30V 1A SOD123W)
pins: 1 A, 2 K

## PNLS5020-330
designator L?
1A 33uH ±20% 356mΩ SMD,5x5x2mm Power Inductors ROHS; Manufacturer: DMBJ; Manufacturer Part Number: PNLS5020-330; Footprint: Custom; ComponentLink1Description: LCSC; ComponentLink1URL: https://www.lcsc.com/product-detail/Power-Inductors_DMBJ-PNLS5020-330_C2849490.html
footprint PNLS5020-330
pins: 1, 2

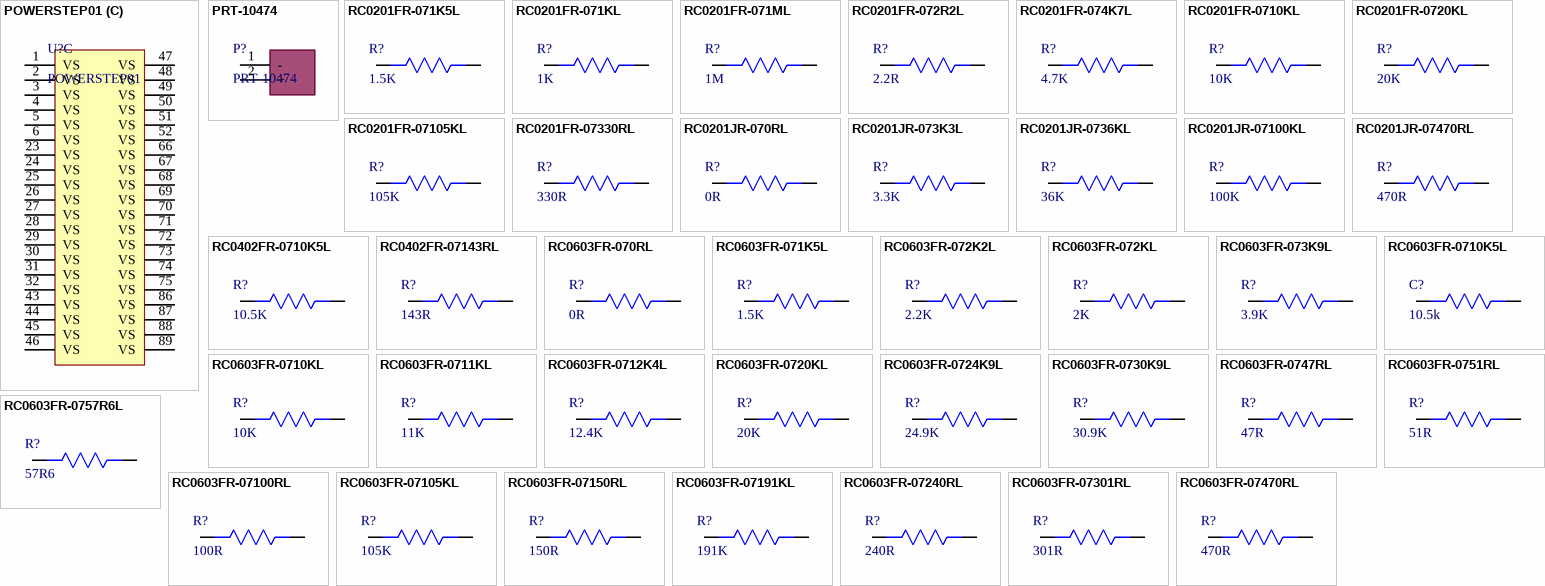
[diagram p5: symbols POWERSTEP01 to RC0603FR-07470RL]

## POWERSTEP01
designator U?
IC MICROSTEP CTLR SIP 89VFQFPN; Manufacturer: STMicroelectronics; Manufacturer Part Number: POWERSTEP01TR; Operating Supply Voltage: 85V; Logic Function: AND GATE; Interface: SPI; Output Current: 10A; Supplier 1: Avnet; RoHS: Yes; Category: Integrated Circuits (ICs); Pricing 1: 2500=6.14250, 5000=5.98500, 10000=5.89500, 15000=5.80500, 20000=5.73750, 25000=5.62500, 250000=5.53500 (USD); Number of Pins: 102; Min Operating Temperature: -40°C; Max Operating Temperature: 150°C; Packaging: Tape and Reel; Lead Free: Lead Free; RoHS Compliant: Yes; ComponentLink1URL: http://www.st.com/content/ccc/resource/technical/document/datasheet/3f/48/e2/37/6b/ac/4c/f5/DM00090983.pdf/files/DM00090983.pdf/jcr:content/translations/en.DM00090983.pdf?src-supplier=Digi-Key; ComponentLink1Description: http://www.st.com/content/ccc/resource/technical/document/datasheet/3f/48/e2/37/6b/ac/4c/f5/DM00090983.pdf/files/DM00090983.pdf/jcr:content/translations/en.DM00090983.pdf?src-supplier=Digi-Key; Supplier Part Number 1: POWERSTEP01TR
footprint 89-VFQFPN (11x14)
part A pins: 8 GND, 9 SENSEB_S, 10 ~{CS}, 11 CK, 12 SDI, 13 VDDIO, 14 SDO, 15 ~{BUSY!/SYNC}, 16 ~{FLAG}, 17 STCK, 18 SW, 19 ~{STBY!/!RESET}, 20 SENSEA_S, 21 GND, 34 SENSEA2_P, 35 SENSEA2_P, 36 SENSEA2_P, 39 SENSEA1_P, 40 SENSEA1_P, 41 SENSEA1_P, 54 ADCIN, 55 VS, 56 VBOOT, 57 CP, 58 VCC, 59 GND, 60 VCCREG, 61 VSREG, 62 VREG, 63 OSCIN, 64 OSCOUT, 77 SENSEB1_P, 78 SENSEB1_P, 79 SENSEB1_P, 82 SENSEB2_P, 83 SENSEB2_P, 84 SENSEB2_P, EPAD9 GND
part B pins: 7 OUTB2, 22 OUTA2, 33 OUTA2, 37 OUTA2, 38 OUTA1, 42 OUTA1, 53 OUTA1, 65 OUTB1, 76 OUTB1, 80 OUTB1, 81 OUTB2, 85 OUTB2, EPAD3 OUTA2, EPAD4 OUTA1, EPAD7 OUTB1, EPAD8 OUTB2
part C pins: 1 VS, 2 VS, 3 VS, 4 VS, 5 VS, 6 VS, 23 VS, 24 VS, 25 VS, 26 VS, 27 VS, 28 VS, 29 VS, 30 VS, 31 VS, 32 VS, 43 VS, 44 VS, 45 VS, 46 VS, 47 VS, 48 VS, 49 VS, 50 VS, 51 VS, 52 VS, 66 VS, 67 VS, 68 VS, 69 VS, 70 VS, 71 VS, 72 VS, 73 VS, 74 VS, 75 VS, 86 VS, 87 VS, 88 VS, 89 VS

## PRT-10474
designator P?
XT60 CONNECTORS MALE/FEMALE PAIR; Manufacturer: SparkFun; Supplier 1: Digi-Key; Manufacturer Part Number: PRT-10474; RoHS: No; Stock 1: 3234; Pricing 1: 1=1.50000 (USD); ComponentLink1URL: https://cdn.sparkfun.com/datasheets/Prototyping/xt60.pdf?src-supplier=Digi-Key; ComponentLink1Description: https://cdn.sparkfun.com/datasheets/Prototyping/xt60.pdf?src-supplier=Digi-Key; Supplier Part Number 1: 1568-1816-ND
footprint PRT-10474
pins: 1 -, 2 +

## RC0201FR-071K5L
designator R?, comment 1.5K
RES SMD 1.5K OHM 1% 1/20W 0201; Manufacturer: Yageo; Manufacturer Part Number: RC0201FR-071K5L; Resistance: 1.5kR; Power Rating: 50mW; Voltage Rating: 25V; Temperature Coefficient: 200ppm/°C; Supplier 1: Digi-Key; RoHS: Yes; Category: Chip SMD Resistors; Stock 1: 29374; Pricing 1: 1=0.10000, 10=0.04200, 100=0.01700, 1000=0.00765, 2500=0.00664, 5000=0.00548 (USD); Case/Package: 0201; Case Code (Metric): 0603; Case Code (Imperial): 0201; Size Code: 0201; Min Operating Temperature: -55°C; Max Operating Temperature: 125°C; Package Quantity: 10000; Packaging: Tape and Reel; Tolerance: 1%; Resistor Type: Thick Film; Number of Terminations: 2; Termination: SMD/SMT; Max Power Dissipation: 50mW; Features: Moisture Resistant; Series: RC; Resistance Tolerance: 1%; Length: 0.024inch; Width: 0.012inch; Height: 0.01inch; REACH SVHC: Unknown; Lead Free: Lead Free; RoHS Compliant: Yes; ComponentLink1URL: https://datasheet.ciiva.com/22698/1563626-22698504.pdf?src-supplier=Element14; ComponentLink1Description: https://datasheet.ciiva.com/22698/1563626-22698504.pdf?src-supplier=Element14; ComponentLink2URL: https://datasheet.ciiva.com/7672/1563626-7672203.pdf?src-supplier=Element14; ComponentLink2Description: https://datasheet.ciiva.com/7672/1563626-7672203.pdf?src-supplier=Element14; Supplier Part Number 1: YAG2274CT-ND
footprint Res-0201
pins: 1, 2

## RC0201FR-071KL
designator R?, comment 1K
RES SMD 1K OHM 1% 1/20W 0201; Manufacturer: Yageo; Manufacturer Part Number: RC0201FR-071KL; Resistance: 1kR; Temperature Coefficient: 200ppm/°C; Power Rating: 50mW; Voltage Rating: 25V; Supplier 1: Digi-Key; Stock 1: 3437969; Pricing 1: 1=0.1, 10=0.04, 100=0.0165, 1000=0.00739, 2500=0.00642, 5000=0.0053 (USD); Case/Package: 0201; Contact Plating: Tin,Matte; Case Code (Metric): 0603; Case Code (Imperial): 0201; Min Operating Temperature: -55°C; Max Operating Temperature: 125°C; Tolerance: 1%; Composition: Thick Film; Package Quantity: 10000; Packaging: Tape and Reel; Number of Terminations: 2; Termination: SMD/SMT; Military Standard: Not; Max Power Dissipation: 50mW; Working Voltage: 25V; Features: Moisture Resistant; Length: 0.024inch; Height: 0.01inch; Width: 0.012inch; Depth: 0.3mm; Radiation Hardening: No; REACH SVHC: Unknown; Lead Free: Lead Free; ComponentLink1URL: http://www.yageo.com/documents/recent/PYu-RC0201_51_RoHS_L_8.pdf?src-supplier=Avnet+Europe; ComponentLink1Description: http://www.yageo.com/documents/recent/PYu-RC0201_51_RoHS_L_8.pdf?src-supplier=Avnet+Europe; ComponentLink2URL: http://www.farnell.com/datasheets/2167052.pdf?src-supplier=Element14; ComponentLink2Description: http://www.farnell.com/datasheets/2167052.pdf?src-supplier=Element14; ComponentLink3URL: http://www.yageo.com/documents/recent/PYu-RC_Group_51_RoHS_L_10.pdf?src-supplier=Digi-Key; ComponentLink3Description: http://www.yageo.com/documents/recent/PYu-RC_Group_51_RoHS_L_10.pdf?src-supplier=Digi-Key; ComponentLink4URL: http://www.yageo.com/documents/recent/PYu-RC0201_51_RoHS_L_8.pdf?src-supplier=Avnet; ComponentLink4Description: http://www.yageo.com/documents/recent/PYu-RC0201_51_RoHS_L_8.pdf?src-supplier=Avnet; Supplier Part Number 1: 311-1KMCT-ND
footprint Res-0201
pins: 1, 2

## RC0201FR-071ML
designator R?, comment 1M
RES SMD 1M OHM 1% 1/20W 0201; Manufacturer: Yageo; Manufacturer Part Number: RC0201FR-071ML; Resistance: 1MR; Temperature Coefficient: 200ppm/°C; Power Rating: 50mW; Voltage Rating: 25V; Supplier 1: Digi-Key; Stock 1: 3125521; Pricing 1: 1=0.1, 10=0.04, 100=0.0165, 1000=0.00739, 2500=0.00642, 5000=0.0053 (USD); Case/Package: 0201; Contact Plating: Tin,Matte; Case Code (Imperial): 0201; Case Code (Metric): 0603; Min Operating Temperature: -55°C; Max Operating Temperature: 125°C; Tolerance: 1%; Composition: Thick Film; Packaging: Tape and Reel; Package Quantity: 10000; Termination: SMD/SMT; Number of Terminations: 2; Military Standard: Not; Max Power Dissipation: 50mW; Features: Moisture Resistant; Length: 0.6mm; Height: 0.01inch; Width: 0.3mm; Depth: 0.3mm; Radiation Hardening: No; REACH SVHC: Unknown; Lead Free: Lead Free; ComponentLink1URL: http://www.farnell.com/datasheets/2167052.pdf?src-supplier=Element14; ComponentLink1Description: http://www.farnell.com/datasheets/2167052.pdf?src-supplier=Element14; ComponentLink2URL: http://www.yageo.com/documents/recent/PYu-RC_Group_51_RoHS_L_10.pdf?src-supplier=Digi-Key; ComponentLink2Description: http://www.yageo.com/documents/recent/PYu-RC_Group_51_RoHS_L_10.pdf?src-supplier=Digi-Key; ComponentLink3URL: http://www.yageo.com/documents/recent/PYu-RC_Group_51_RoHS_L_9.pdf?src-supplier=Digi-Key; ComponentLink3Description: http://www.yageo.com/documents/recent/PYu-RC_Group_51_RoHS_L_9.pdf?src-supplier=Digi-Key; Supplier Part Number 1: 311-1MMCT-ND
footprint Res-0201
pins: 1, 2

## RC0201FR-072R2L
designator R?, comment 2.2R
RES SMD 2.2 OHM 1% 1/20W 0201; Manufacturer: Yageo; Manufacturer Part Number: RC0201FR-072R2L; Power Rating: 50mW; Temperature Coefficient: 350ppm/°C; Supplier 1: Digi-Key; RoHS: Yes; Category: Chip SMD Resistors; Stock 1: 18; Pricing 1: 1=0.10000, 10=0.06300, 100=0.02560, 1000=0.01149, 2500=0.00997, 5000=0.00824 (USD); Case/Package: 0201; Case Code (Metric): 0603; Case Code (Imperial): 0201; Min Operating Temperature: -55°C; Max Operating Temperature: 125°C; Packaging: Tape and Reel; Tolerance: 1%; Resistance: 2.2R; Resistor Type: Thick Film; Number of Terminations: 2; Max Power Dissipation: 50mW; Features: Moisture Resistant; Length: 0.024inch; Width: 0.012inch; Height: 0.01inch; REACH SVHC: No SVHC; ComponentLink1URL: https://datasheet.ciiva.com/22661/1563626-22661304.pdf?src-supplier=Element14; ComponentLink1Description: https://datasheet.ciiva.com/22661/1563626-22661304.pdf?src-supplier=Element14; ComponentLink2URL: https://datasheet.ciiva.com/6002/1563626-6002815.pdf?src-supplier=Farnell; ComponentLink2Description: https://datasheet.ciiva.com/6002/1563626-6002815.pdf?src-supplier=Farnell; Supplier Part Number 1: 13-RC0201FR-072R2LCT-ND
footprint Res-0201
pins: 1, 2

## RC0201FR-074K7L
designator R?, comment 4.7K
RES SMD 4.7K OHM 1% 1/20W 0201; Manufacturer: Yageo; Manufacturer Part Number: RC0201FR-074K7L; Resistance: 4.7kR; Temperature Coefficient: 200ppm/°C; Power Rating: 50mW; Voltage Rating: 25V; Supplier 1: Digi-Key; Stock 1: 2128413; Pricing 1: 1=0.1, 10=0.04, 100=0.0165, 1000=0.00739, 2500=0.00642, 5000=0.0053 (USD); Case/Package: 0201; Weight: 6E-06oz; Contact Plating: Tin,Matte; Case Code (Metric): 0603; Case Code (Imperial): 0201; Min Operating Temperature: -55°C; Max Operating Temperature: 125°C; Tolerance: 1%; Composition: Thick Film; Packaging: Tape and Reel; Package Quantity: 1; Number of Terminations: 2; Termination: SMD/SMT; Military Standard: Not; Max Power Dissipation: 50mW; Features: Moisture Resistant; Length: 0.6mm; Height: 0.01inch; Width: 0.012inch; Depth: 0.3mm; Radiation Hardening: No; REACH SVHC: Unknown; Lead Free: Lead Free; ComponentLink1URL: http://www.yageo.com/documents/recent/PYu-RC_Group_51_RoHS_L_10.pdf?src-supplier=Digi-Key; ComponentLink1Description: http://www.yageo.com/documents/recent/PYu-RC_Group_51_RoHS_L_10.pdf?src-supplier=Digi-Key; ComponentLink2URL: http://www.farnell.com/datasheets/2167052.pdf?src-supplier=Element14; ComponentLink2Description: http://www.farnell.com/datasheets/2167052.pdf?src-supplier=Element14; ComponentLink3URL: http://www.yageo.com/documents/recent/PYu-RC0201_51_RoHS_L_8.pdf?src-supplier=Avnet+Europe; ComponentLink3Description: http://www.yageo.com/documents/recent/PYu-RC0201_51_RoHS_L_8.pdf?src-supplier=Avnet+Europe; ComponentLink4URL: http://www.yageo.com/documents/recent/PYu-RC0201_51_RoHS_L_8.pdf?src-supplier=Avnet; ComponentLink4Description: http://www.yageo.com/documents/recent/PYu-RC0201_51_RoHS_L_8.pdf?src-supplier=Avnet; Supplier Part Number 1: 311-4.70KMCT-ND
footprint Res-0201
pins: 1, 2

## RC0201FR-0710KL
designator R?, comment 10K
RES SMD 10K OHM 1% 1/20W 0201; Manufacturer: Yageo; Manufacturer Part Number: RC0201FR-0710KL; Resistance: 10kR; Temperature Coefficient: 200ppm/°C; Power Rating: 50mW; Voltage Rating: 25V; Supplier 1: Digi-Key; Stock 1: 12729696; Pricing 1: 1=0.1, 10=0.042, 100=0.0171, 1000=0.00768, 2500=0.00666, 5000=0.00551 (USD); Case/Package: 0201; Number of Pins: 2; Weight: 6E-06oz; Contact Plating: Tin,Matte; Case Code (Imperial): 0201; Case Code (Metric): 0603; Min Operating Temperature: -55°C; Max Operating Temperature: 125°C; Tolerance: 1%; Composition: Thick Film; Packaging: Tape and Reel; Package Quantity: 1; Termination: SMD/SMT; Number of Terminations: 2; Military Standard: Not; Max Power Dissipation: 50mW; Voltage Rating (DC): 25V; Working Voltage: 25V; Features: Moisture Resistant; Length: 0.6mm; Height: 0.01inch; Width: 0.3mm; Depth: 0.3mm; Radiation Hardening: No; REACH SVHC: No SVHC; Lead Free: Lead Free; ComponentLink1URL: http://www.yageo.com/documents/recent/PYu-RC_Group_51_RoHS_L_10.pdf?src-supplier=Digi-Key; ComponentLink1Description: http://www.yageo.com/documents/recent/PYu-RC_Group_51_RoHS_L_10.pdf?src-supplier=Digi-Key; ComponentLink2URL: http://www.farnell.com/datasheets/2167052.pdf?src-supplier=Element14; ComponentLink2Description: http://www.farnell.com/datasheets/2167052.pdf?src-supplier=Element14; ComponentLink3URL: http://www.yageo.com/documents/recent/PYu-RC0201_51_RoHS_L_8.pdf?src-supplier=Avnet; ComponentLink3Description: http://www.yageo.com/documents/recent/PYu-RC0201_51_RoHS_L_8.pdf?src-supplier=Avnet; ComponentLink4URL: http://www.yageo.com/documents/recent/PYu-RC0201_51_RoHS_L_8.pdf?src-supplier=Avnet+Europe; ComponentLink4Description: http://www.yageo.com/documents/recent/PYu-RC0201_51_RoHS_L_8.pdf?src-supplier=Avnet+Europe; ComponentLink5URL: https://www.verical.com/server-webapp/html/getDatasheet?partID=421074&src-supplier=Verical; ComponentLink5Description: https://www.verical.com/server-webapp/html/getDatasheet?partID=421074&src-supplier=Verical; ComponentLink6URL: http://www.farnell.com/datasheets/1421516.pdf?src-supplier=Element14; ComponentLink6Description: http://www.farnell.com/datasheets/1421516.pdf?src-supplier=Element14; Supplier Part Number 1: 311-10.0KMCT-ND
footprint Res-0201
pins: 1, 2

## RC0201FR-0720KL
designator R?, comment 20K
RES SMD 20K OHM 1% 1/20W 0201; Manufacturer: Yageo; Manufacturer Part Number: RC0201FR-0720KL; Voltage Rating: 25V; Resistance: 20kR; Power Rating: 50mW; Temperature Coefficient: 200ppm/°C; Supplier 1: Digi-Key; Stock 1: 1339619; Pricing 1: 1=0.1, 10=0.042, 100=0.0171, 1000=0.00768, 2500=0.00666, 5000=0.00551 (USD); Case/Package: 0201; Case Code (Imperial): 0201; Case Code (Metric): 0603; Min Operating Temperature: -55°C; Max Operating Temperature: 125°C; Tolerance: 1%; Packaging: Tape and Reel; Package Quantity: 10000; Composition: Thick Film; Termination: SMD/SMT; Number of Terminations: 2; Military Standard: Not; Max Power Dissipation: 50mW; Features: Moisture Resistant; Length: 0.024inch; Height: 0.01inch; Width: 0.012inch; Depth: 0.3mm; Lead Free: Lead Free; ComponentLink1URL: http://www.yageo.com.tw/exep/pages/download/literatures/PYu-R_INT-thick_7.pdf?src-supplier=Digi-Key; ComponentLink1Description: http://www.yageo.com.tw/exep/pages/download/literatures/PYu-R_INT-thick_7.pdf?src-supplier=Digi-Key; Supplier Part Number 1: YAG2276CT-ND
footprint Res-0201
pins: 1, 2

## RC0201FR-07105KL
designator R?, comment 105K
RES SMD 105K OHM 1% 1/20W 0201; Manufacturer: Yageo; Manufacturer Part Number: RC0201FR-07105KL; Resistance: 105kR; Temperature Coefficient: 200ppm/°C; Max Power Dissipation: 50mW; Supplier 1: Digi-Key; RoHS: Yes; Category: Chip SMD Resistors; Stock 1: 4813; Pricing 1: 1=0.10000, 10=0.04200, 100=0.01700, 1000=0.00765, 2500=0.00664, 5000=0.00548 (USD); Case/Package: 0201; Case Code (Metric): 0603; Case Code (Imperial): 0201; Min Operating Temperature: -55°C; Max Operating Temperature: 125°C; Package Quantity: 1; Tolerance: 1%; Packaging: Tape and Reel; Resistor Type: Thick Film; Number of Terminations: 2; Features: Moisture Resistant; Series: RC; Construction: Rectangular; Length: 0.024inch; Width: 0.012inch; Height: 0.01inch; Depth: 0.3mm; Military Standard: Not; RoHS Compliant: Yes; ComponentLink1URL: https://datasheet.ciiva.com/2467/pyu-r-int-thick-7-2467120.pdf?src-supplier=Digi-Key; ComponentLink1Description: https://datasheet.ciiva.com/2467/pyu-r-int-thick-7-2467120.pdf?src-supplier=Digi-Key; ComponentLink2URL: https://datasheet.ciiva.com/2467/pyu-r-int-thick-7-2467119.pdf?src-supplier=Digi-Key; ComponentLink2Description: https://datasheet.ciiva.com/2467/pyu-r-int-thick-7-2467119.pdf?src-supplier=Digi-Key; ComponentLink3URL: https://datasheet.ciiva.com/2467/pyu-r-int-thick-7-2467118.pdf?src-supplier=Digi-Key; ComponentLink3Description: https://datasheet.ciiva.com/2467/pyu-r-int-thick-7-2467118.pdf?src-supplier=Digi-Key; Supplier Part Number 1: 311-105KMCT-ND
footprint Res-0201
pins: 1, 2